# EAGLE library part FTSH-104-04-L-D (library FTSH-104-04-L-D)
Check availability <https://pricing.snapeda.com/parts/FTSH-104-04-L-D/Samtec/view-part?ref=eda>
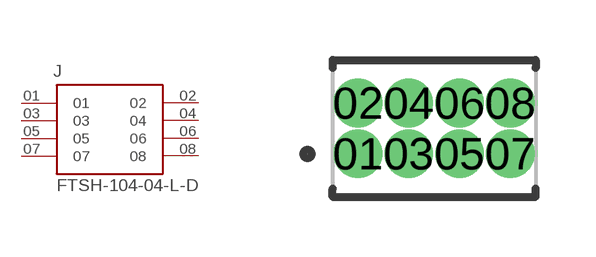
[diagram p0: symbol with the pads of SAMTEC_FTSH-104-04-L-D; footprint SAMTEC_FTSH-104-04-L-D]

Designator prefix J

## FTSH-104-04-L-D (AVAILABILITY: In Stock; DESCRIPTION: Connector Header Surface Mount 8 position 0.050 (1.27mm); MF: Samtec; MP: FTSH-104-04-L-D; PACKAGE: None; PRICE: None; PURCHASE-URL: https://pricing.snapeda.com/search/part/FTSH-104-04-L-D/?ref=eda)  [SAMTEC_FTSH-104-04-L-D]
01  01  pas
02  02  pas
03  03  pas
04  04  pas
05  05  pas
06  06  pas
07  07  pas
08  08  pas

## Footprint SAMTEC_FTSH-104-04-L-D (pad centres in mm)
drill 0.71 pad 1.06: 01 0,0; 02 0,1.27; 03 1.27,0; 04 1.27,1.27; 05 2.54,0; 06 2.54,1.27; 07 3.81,0; 08 3.81,1.27